# Altium footprint library SIUE_Footprint.PcbLib: 12 footprints
Each footprint in its own frame and in the unit in brackets; x right, y up, seen from the top. Pads: shape width x height; smd on the part's side, far side on the other; paste and mask are expansions set on the pad; w line width, h text height; cw(c..) or ccw(c..) is an arc to the next point about the centre after c.
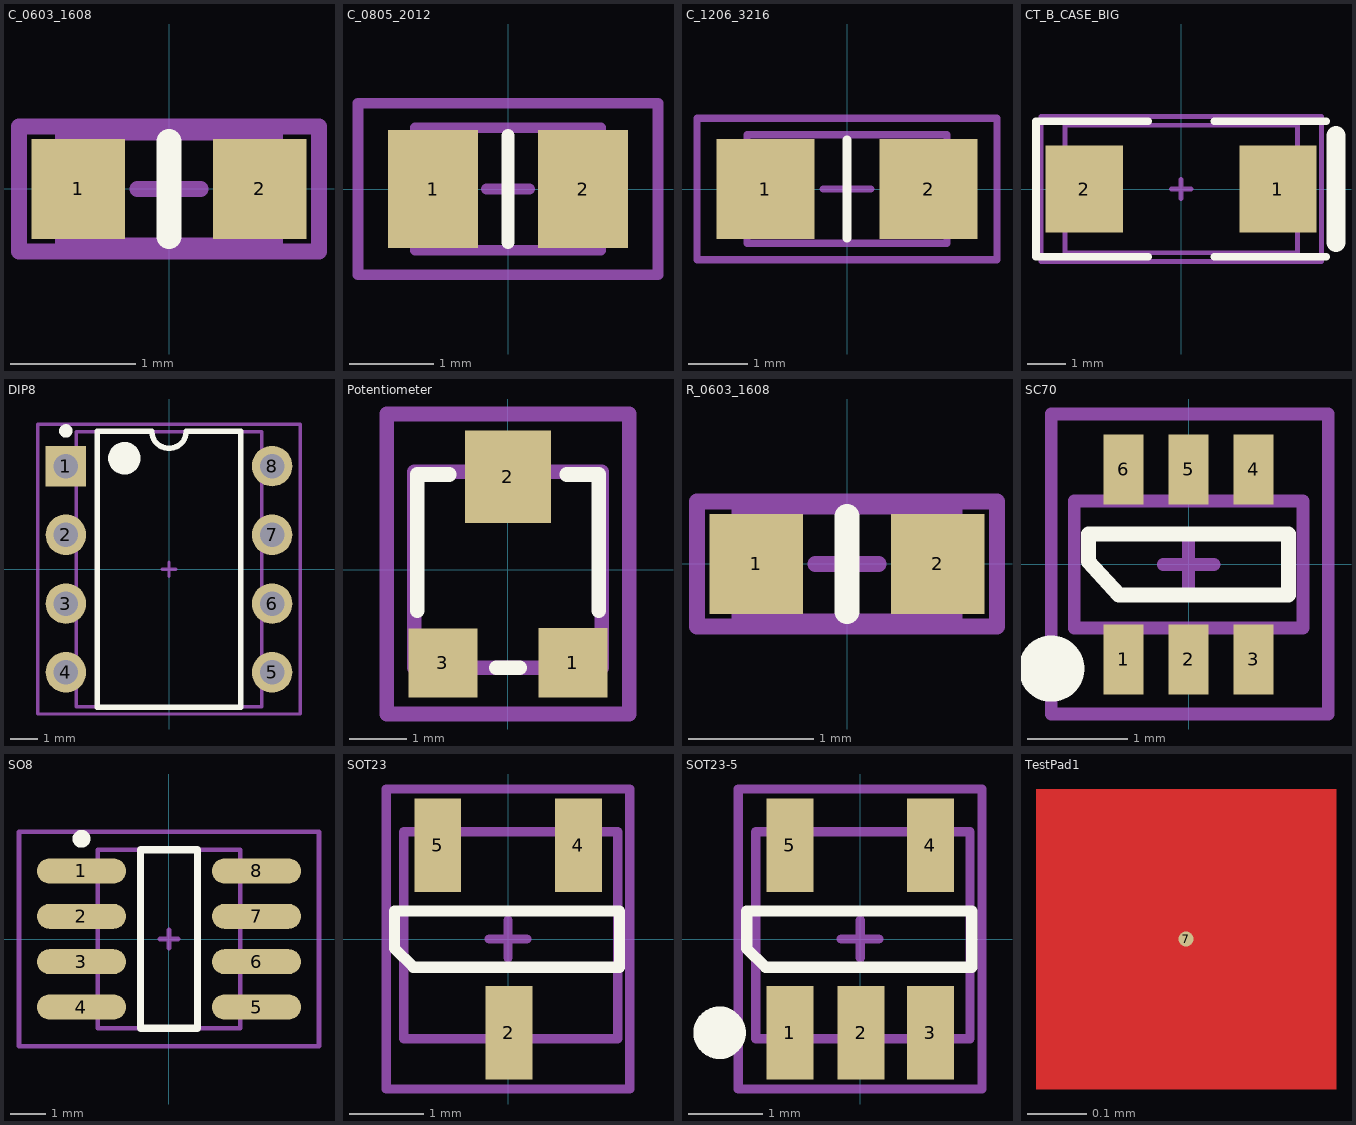
[diagram p0: the footprints below, top view; thin cyan lines are the x and y axes]

## C_0603_1608 [mm]
pads (2):
  rect 0.75x0.8 smd: 1(-0.725,0) 2(0.725,0)
Top Overlay:
  lines w0.2: 0,-0.381 0,0.381
Mechanical 13:
  lines w0.127: -0.85,-0.45 -0.85,0.45 0.85,0.45 0.85,-0.45 -0.85,-0.45
Mechanical 15:
  lines w0.127: -0.254,0 0.254,0 ; 0,-0.254 0,0.254 ; -1.2,-0.5 -1.2,0.5 1.2,0.5 1.2,-0.5 -1.2,-0.5
3D body "CAP_0603.STEP": height 0.89, standoff -0.01, extent -0.85,-0.45 0.85,0.45

## C_0805_2012 [mil]
pads (2):
  rect 42x55 smd: 1(-35,0) 2(35,0)
Top Overlay:
  lines w6: 0,-25 0,25
Mechanical 13:
  lines w5: -43.3,-28.54 -43.3,28.55 43.31,28.55 43.31,-28.54 -43.3,-28.54
Mechanical 15:
  lines w5: -10,0 10,0 ; 0,-10 0,10 ; -70,-40 -70,40 70,40 70,-40 -70,-40
3D body "CAP_0805.STEP": height 52.64, standoff -0.51, extent -43.3,-28.54 43.31,28.55

## C_1206_3216 [mm]
pads (2):
  rect 1.667x1.697 smd: 1(-1.389,0) 2(1.389,0)
Top Overlay:
  lines w0.152: 0,-0.835 0,0.835
Mechanical 13:
  lines w0.127: -1.7,-0.925 1.7,-0.925 1.7,0.925 -1.7,0.925 -1.7,-0.925
Mechanical 15:
  lines w0.127: -0.4,0 0.4,0 ; 0,-0.254 0,0.254 ; -2.55,-1.2 2.55,-1.2 2.55,1.2 -2.55,1.2 -2.55,-1.2
3D body "Ceramic_Capacitor_1206_h32mil.step": height 0.81, standoff 0.01, extent -1.6,-0.8 1.6,0.8

## CT_B_CASE_BIG [mm]
pads (2):
  rect 2.03x2.28 smd: 1(2.54,0) 2(-2.54,0)
Top Overlay:
  lines w0.2: -0.864,-1.778 -3.81,-1.778 -3.81,1.778 -0.864,1.778 ; 0.864,-1.778 3.81,-1.778 ; 0.864,1.778 3.81,1.778
  lines w0.5: 4.064,-1.397 4.064,1.397
Mechanical 13:
  lines w0.127: -3.048,-1.675 3.05,-1.675 3.05,1.675 -3.048,1.675 -3.048,-1.675
Mechanical 15:
  lines w0.127: -0.254,0 0.254,0 ; 0,-0.254 0,0.254 ; -3.683,-1.905 3.683,-1.905 3.683,1.905 -3.683,1.905 -3.683,-1.905
3D body "User Library-AVX_C_CASE.step": height 2.7, standoff 0, extent -3.05,-1.675 3.05,1.675

## DIP8 [mm]
pads (8):
  rect 1.5x1.5 hole 0.9: 1(-3.81,3.81)
  round 1.5 hole 0.9: 2(-3.81,1.27) 3(-3.81,-1.27) 4(-3.81,-3.81) 5(3.81,-3.81) 6(3.81,-1.27) 7(3.81,1.27) 8(3.81,3.81)
Top Overlay:
  circle w0.6: c-1.65,4.1 r0.3
  circle w0.25: c-3.81,5.11 r0.125
  lines w0.2: -2.65,-5.1 2.65,-5.1 2.65,5.1 0.635,5.1 cw(c0,5.1) -0.635,5.1 -2.65,5.1 -2.65,-5.1
Mechanical 13:
  lines w0.127: -3.425,-5.075 3.425,-5.075 3.425,5.075 -3.425,5.075 -3.425,-5.075
Mechanical 15:
  lines w0.127: -0.254,0 0.254,0 ; 0,-0.254 0,0.254 ; -4.85,-5.35 4.85,-5.35 4.85,5.35 -4.85,5.35 -4.85,-5.35
3D body "User Library-DIP-8P-M01.step": height 4.36, standoff -3, extent -3.937,-4.7 3.933,4.7

## Potentiometer [mil]
pads (3):
  rect 47.2x47.2 smd: 1(44.3,-63.5) 3(-44.36,-63.57)
  rect 59x63 smd: 2(0,63.5)
Top Overlay:
  lines w10: -62.01,-27.99 -62.01,64.02 ; -62.01,65 -40,65 ; -7.87,-66.93 7.87,-66.93 ; 40,65 62.01,65 ; 62.01,-27.99 62.01,64.02
Mechanical 13:
  lines w10: -63.94,-66.93 -63.94,66.93 63.94,66.93 63.94,-66.93 -63.94,-66.93
Mechanical 15:
  lines w10: -82.68,-98.43 82.68,-98.43 82.68,106.3 -82.68,106.3 -82.68,-98.43
3D body "3313J-001.stp": height 82.68, standoff -1.32, extent -65,-66 65,72

## R_0603_1608 [mm]
pads (2):
  rect 0.75x0.8 smd: 1(-0.725,0) 2(0.725,0)
Top Overlay:
  lines w0.2: 0,-0.381 0,0.381
Mechanical 13:
  lines w0.127: -0.86,-0.46 -0.86,0.46 0.86,0.46 0.86,-0.46 -0.86,-0.46
Mechanical 15:
  lines w0.127: -0.254,0 0.254,0 ; 0,-0.254 0,0.254 ; -1.2,-0.5 -1.2,0.5 1.2,0.5 1.2,-0.5 -1.2,-0.5
3D body "RES 0603 (1608 metric).STEP": height 0.54, standoff -0.01, extent -0.875,-0.475 0.875,0.475

## SC70 [mm]
pads (6):
  rect 0.4x0.7 smd: 1(-0.65,-0.95) 2(0,-0.95) 3(0.65,-0.95) 4(0.65,0.95) 5(0,0.95) 6(-0.65,0.95)
Top Overlay:
  circle w0.508: c-1.372,-1.041 r0.076
  lines w0.152: -1,0.028 -0.697,-0.305 1,-0.305 1,0.305 -1,0.305 -1,0.028
Mechanical 13:
  lines w0.127: -1.143,-0.635 1.143,-0.635 1.143,0.635 -1.143,0.635 -1.143,-0.635
Mechanical 15:
  lines w0.127: -0.254,0 0.254,0 ; 0,-0.254 0,0.254 ; -1.372,-1.495 1.397,-1.495 1.397,1.504 -1.372,1.504 -1.372,-1.495
3D body "SOT363.STEP": height 1.1, standoff 0, extent -1.1,-1.176 1.1,1.224

## SO8 [mm]
pads (8):
  oval 2.5x0.7 smd: 1(-2.45,1.905) 2(-2.45,0.635) 3(-2.45,-0.635) 4(-2.45,-1.905) 5(2.45,-1.905) 6(2.45,-0.635) 7(2.45,0.635) 8(2.45,1.905)
Top Overlay:
  circle w0.25: c-2.45,2.805 r0.125
  lines w0.2: -0.8,-2.5 0.8,-2.5 0.8,2.5 -0.8,2.5 -0.8,-2.5
Mechanical 13:
  lines w0.127: -2,-2.5 2,-2.5 2,2.5 -2,2.5 -2,-2.5
Mechanical 15:
  lines w0.127: -0.254,0 0.254,0 ; 0,-0.254 0,0.254 ; -4.2,-3 -4.2,3 4.2,3 4.2,-3 -4.2,-3
3D body "User Library-so8-3.step": height 1.7, standoff 0, extent -3,-2.45 3,2.45

## SOT23 [mil]
pads (3):
  rect 25x50 smd: 2(0.5,-50) 4(37.5,50) 5(-37.5,50)
Top Overlay:
  lines w6: -60.5,-5 -60.5,15 59.5,15 59.5,-15 -50.5,-15 -60.5,-5
Mechanical 13:
  lines w5: -55.58,-53.11 58.59,-53.11 58.59,57.12 -55.58,57.12 -55.58,-53.11
Mechanical 15:
  lines w5: -10,0 10,0 ; 0,-10 0,10 ; -65,-80 65,-80 65,80 -65,80 -65,-80
3D body "SOT23-3.stp": height 47.44, standoff 0.8, extent -59.06,-55.82 59.06,55.82

## SOT23-5 [mil]
pads (5):
  rect 25x50 smd: 1(-37.5,-50) 2(0.5,-50) 3(37.5,-50) 4(37.5,50) 5(-37.5,50)
Top Overlay:
  circle w20: c-75,-50 r4
  lines w6: -60.5,-5 -50.5,-15 59.5,-15 59.5,15 -60.5,15 -60.5,-5
Mechanical 13:
  lines w5: -55.58,-53.11 -55.58,57.12 58.59,57.12 58.59,-53.11 -55.58,-53.11
Mechanical 15:
  lines w5: -10,0 10,0 ; 0,-10 0,10 ; -65,-80 -65,80 65,80 65,-80 -65,-80
3D body "User Library-SOT23-5-2.step": height 57.09, standoff 0, extent -55.58,-53.11 58.59,57.12

## TestPad1 [mil]
pads (1):
  round 1 smd: 7(-15,40)
Top Layer:
  region: -25,50 -5,50 -5,30 -25,30